# Altium schematic symbol library MOSFET,N Ch,150V,186A,IRF150P221AKMA1.Schlib: 1 symbol
Pins are listed as number, name and electrical type; pins without a type are passive.

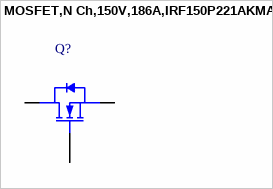
[diagram p0: symbol MOSFET,N Ch,150V,186A,IRF150P221AKMA1]

## MOSFET,N Ch,150V,186A,IRF150P221AKMA1
designator Q?
pins: 1 G, 2 D, 3 S